# EAGLE library part MAX4491 (library at91sam7x-ek)
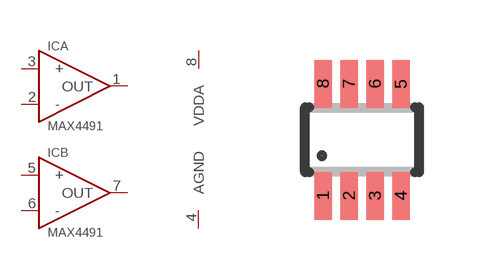
[diagram p5: symbol with the pads of SOT23-8; footprint SOT23-8]

Designator prefix IC; gates A=MAX4491/2 B=MAX4491/2 G$3=VDDA G$4=AGND

## MAX4491AKA  [SOT23-8]
1  A:OUT
2  A:-  in
3  A:+  in
4  G$4:AGND  pwr
5  B:+  in
6  B:-  in
7  B:OUT
8  G$3:VDDA  pwr

## Footprint SOT23-8 (pad centres in mm)
Small Outline Transistor
smd 0.44 x 1.2: 1 -0.975,-1.4; 2 -0.325,-1.4; 3 0.325,-1.4; 4 0.975,-1.4; 5 0.975,1.4; 6 0.325,1.4; 7 -0.325,1.4; 8 -0.975,1.4